# Altium footprint library 保险丝.PcbLib: 1 footprints
Each footprint in its own frame and in the unit in brackets; x right, y up, seen from the top. Pads: shape width x height; smd on the part's side, far side on the other; paste and mask are expansions set on the pad; w line width, h text height; cw(c..) or ccw(c..) is an arc to the next point about the centre after c.
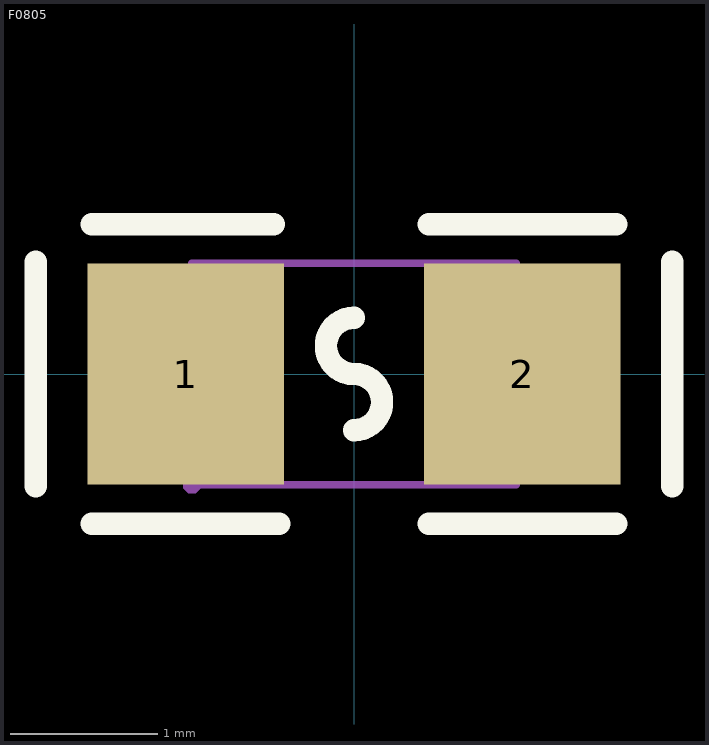
[diagram p0: the footprint, top view; thin cyan lines are the x and y axes]

## F0805 [mm]
pads (2):
  rect 1.335x1.5 smd paste-100 mask+0.051: 1(-1.142,0) 2(1.142,0)
Top Overlay:
  lines w0.152: -2.159,-0.762 -2.159,0.762 ; -1.778,-1.016 -0.508,-1.016 ; -1.778,1.016 -0.545,1.016 ; 0,-0.381 ccw(c0,-0.191) 0,0 cw(c0,0.191) 0,0.381 ; 0.508,-1.016 1.778,-1.016 ; 0.508,1.016 1.778,1.016 ; 2.159,-0.762 2.159,0.762
Top Paste:
  region: -1.675,-0.62 -1.675,0.66 -1.625,0.71 -0.475,0.71 -0.425,0.66 -0.42,0.25 -0.87,0.25 -0.87,-0.2 -0.43,-0.2 -0.425,-0.62 -0.475,-0.67 -1.625,-0.67
  region: 0.475,-0.62 0.475,-0.2 0.92,-0.2 0.92,0.25 0.48,0.25 0.475,0.66 0.525,0.71 1.675,0.71 1.725,0.66 1.725,-0.62 1.675,-0.67 0.525,-0.67
Mechanical 15:
  region: -1.1,0.75 -0.9,0.75 -0.9,-0.75 -1.1,-0.75
  region: 1.1,-0.75 0.9,-0.75 0.9,0.75 1.1,0.75
  region: -1.04,-0.75 -1.04,-0.725 -1.075,-0.69 -1.125,-0.69 -1.16,-0.725 -1.16,-0.75 -1.16,-0.775 -1.125,-0.81 -1.075,-0.81 -1.04,-0.775 -1.04,-0.75
  lines w0.051: -1.1,-0.75 -1.1,0.75 1.1,0.75 1.1,-0.75 -1.1,-0.75